# Altium footprint library DOCK_ESP32_v1.0.PcbLib: 35 footprints (part 1 of 3)
Each footprint in its own frame and in the unit in brackets; x right, y up, seen from the top. Pads: shape width x height; smd on the part's side, far side on the other; paste and mask are expansions set on the pad; w line width, h text height; cw(c..) or ccw(c..) is an arc to the next point about the centre after c.
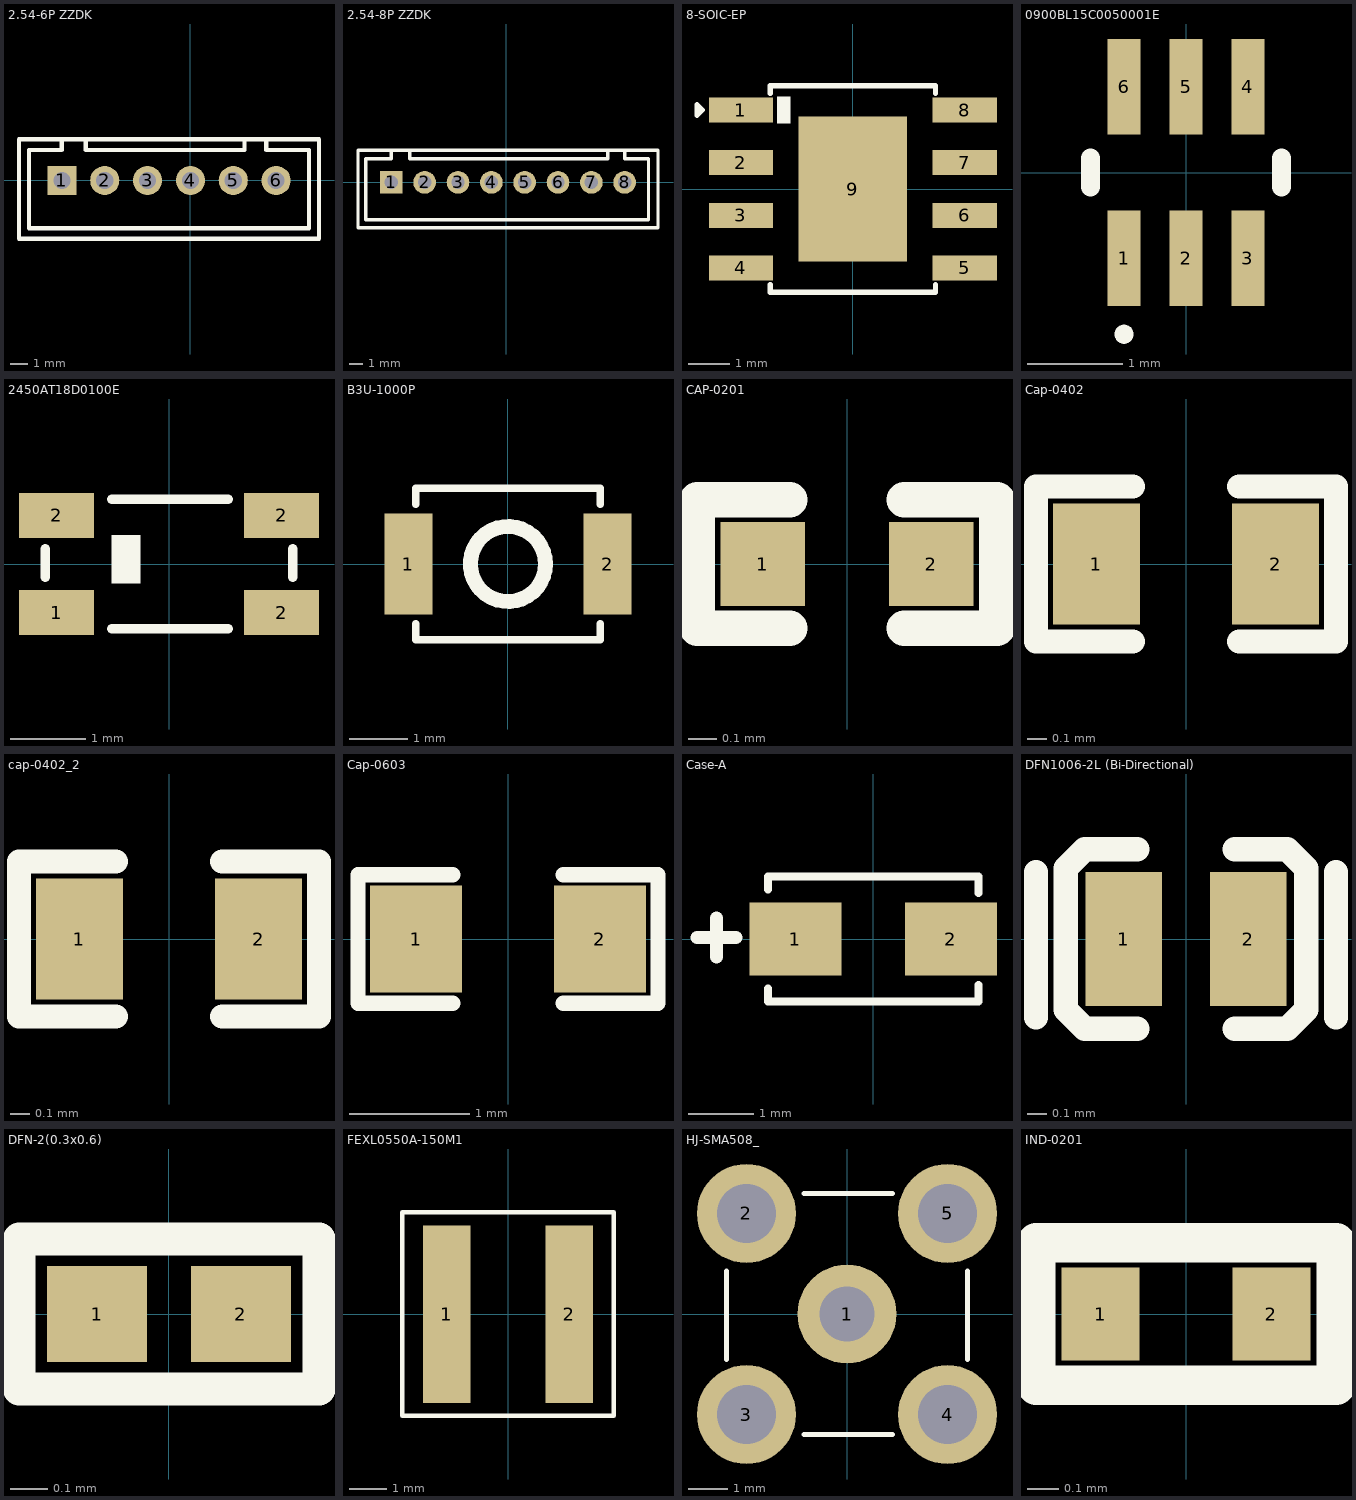
[diagram p0: the footprints below, top view; thin cyan lines are the x and y axes]

## 2.54-6P ZZDK [mm]
pads (6):
  rect 1.7x1.7 hole 1: 1(-7.5,0)
  round 1.7 hole 1: 2(-5,0) 3(-2.5,0) 4(0,0) 5(2.5,0) 6(5,0)
Top Overlay:
  lines w0.254: -7.513,2.371 -7.513,1.778 -9.418,1.778 -9.418,-2.794 6.918,-2.794 6.918,1.778 4.425,1.778 4.425,2.286 ; -6.116,2.354 -6.116,1.778 3.155,1.778 3.155,2.391 ; -10,-3.4 -10,2.4 7.5,2.4 7.5,-3.4 -10,-3.4
3D body "3D_PCB1_2026-05-26.step": height 7.1, standoff -3.4, extent -10.025,-3.527 7.485,2.823

## 2.54-8P ZZDK [mm]
pads (8):
  rect 1.7x1.7 hole 1: 1(-8.636,0)
  round 1.7 hole 1: 2(-6.136,0) 3(-3.636,0) 4(-1.136,0) 5(1.364,0) 6(3.864,0) 7(6.364,0) 8(8.864,0)
Top Overlay:
  lines w0.254: -8.649,2.371 -8.649,1.778 -10.554,1.778 -10.554,-2.794 10.655,-2.794 10.655,1.778 8.877,1.778 8.877,2.286 ; -7.252,2.354 -7.252,1.778 7.607,1.778 7.607,2.391 ; -11.136,-3.4 11.364,-3.4 11.364,2.4 -11.136,2.4 -11.136,-3.4
3D body "3D_PCB1_2026-05-21.step": height 7.1, standoff -3.4, extent -11.146,-3.404 11.364,2.946

## 8-SOIC-EP [mm]
height 8.77
pads (9):
  rect 1.55x0.6 smd: 1(-2.7,1.905) 2(-2.7,0.635) 3(-2.7,-0.635) 4(-2.7,-1.905) 5(2.7,-1.905) 6(2.7,-0.635) 7(2.7,0.635) 8(2.7,1.905)
  rect 2.613x3.502 smd: 9(0,0)
Top Overlay:
  rectangle: -1.829,1.575 -1.499,2.235
  lines w0.127: -1.991,-2.311 -1.991,-2.489 1.991,-2.489 1.991,-2.311 ; -1.991,2.311 -1.991,2.489 1.991,2.489 1.991,2.311 ; -3.759,1.778 -3.632,1.905 -3.759,2.032 -3.759,1.778
3D body "User Library-SOIC-8-1.STEP": height 1.7, standoff -0.05, extent -3,-2.45 3,2.45

## 0900BL15C0050001E [mm]
height 8.77
pads (6):
  rect 0.35x1 smd: 1(-0.65,-0.9) 2(0,-0.9) 3(0.65,-0.9) 4(0.65,0.9) 5(0,0.9) 6(-0.65,0.9)
Top Overlay:
  lines w0.1: -0.65,-1.746 ccw(c-0.65,-1.696) -0.65,-1.646 ccw(c-0.65,-1.696) -0.65,-1.746
  lines w0.2: -1,-0.15 -1,0.15 ; 1,-0.15 1,0.15
3D body "0900BL15C0050001E.stp": height 0.9, standoff 0, extent -1,-1.365 1,1.365

## 2450AT18D0100E [mm]
height 8.77
pads (4):
  rect 1x0.6 smd paste+0 mask+0.051: 1(-1.5,-0.65) 2(-1.5,0.65) 2(1.5,-0.65) 2(1.5,0.65)
Top Overlay:
  region: -0.762,0.381 -0.762,-0.254 -0.381,-0.254 -0.381,0.381
  lines w0.127: -1.651,-0.178 -1.651,0.203 ; -0.762,-0.864 0.787,-0.864 ; -0.762,0.864 0.787,0.864 ; 1.651,-0.178 1.651,0.203
3D body "C2917718.step": height 1.22, standoff 0, extent -1.6,-0.81 1.6,0.81

## B3U-1000P [mm] "SWITCH TACTILE SPST-NO 0.05A 12V"
height 8.77
pads (2):
  rect 0.82x1.72 smd: 1(-1.7,0) 2(1.7,0)
Top Overlay:
  circle w0.254: c0,0 r0.641
  lines w0.127: -1.575,-1.016 -1.575,-1.295 1.575,-1.295 1.575,-1.016 ; -1.575,1.016 -1.575,1.295 1.575,1.295 1.575,1.016
3D body "User Library-OMRON B3U1000P.step": height 1.6, standoff 0, extent -2,-1.263 2,1.237

## CAP-0201 [mm]
height 8.77
pads (2):
  rect 0.3x0.3 smd mask+0.055: 1(-0.3,0) 2(0.3,0)
Top Overlay:
  lines w0.127: -0.203,-0.229 -0.533,-0.229 -0.533,0.229 -0.203,0.229 ; 0.203,-0.229 0.533,-0.229 0.533,0.229 0.203,0.229
3D body "User Library-SMD Ceramic Capacitors_0201 (0603)_AB.STEP": height 0.28, standoff -0.02, extent -0.3,-0.15 0.301,0.15

## Cap-0402 [mil]
height 345.28
pads (2):
  rect 18x25 smd mask+2.36: 1(-18.5,0) 2(18.5,0)
Top Overlay:
  lines w5: -11,-16 -31,-16 -31,16 -11,16 ; 11,-16 31,-16 31,16 11,16
3D body "User Library-Capacitor 0402.step": height 18.5, standoff -1.18, extent -19.68,-9.84 19.7,9.85

## cap-0402_2 [mil]
pads (2):
  rect 18x25 smd mask+2.36: 1(-18.5,0) 2(18.5,0)
Top Overlay:
  lines w5: -11,-16 -31,-16 -31,16 -11,16 ; 11,-16 31,-16 31,16 11,16
3D body "User Library-Capacitor 0402.step": height 18.5, standoff -1.18, extent -19.68,-9.84 19.7,9.85

## Cap-0603 [mil]
height 345.28
pads (2):
  rect 30x35 smd mask+2.36: 1(-30,0) 2(30,0)
Top Overlay:
  lines w5: -18,-21 -49,-21 -49,21 -18,21 ; 18,-21 49,-21 49,21 18,21
3D body "User Library-CAPC1608X09.step": height 34.25, standoff -1.18, extent -31.51,-15.75 31.49,15.74

## Case-A [mm]
height 8.77
pads (2):
  rect 1.42x1.13 smd: 1(-1.2,0) 2(1.2,0)
Top Overlay:
  lines w0.127: -1.626,-0.762 -1.626,-0.965 1.626,-0.965 1.626,-0.711 ; -1.626,0.762 -1.626,0.965 1.626,0.965 1.626,0.711
  lines w0.2: -2.719,0.025 -2.119,0.025 ; -2.419,-0.275 -2.419,0.325
3D body "Cap_Kemet_T491A475M016AT_eec.STEP": height 1.8, standoff 0, extent -1.6,-0.9 1.6,0.9

## DFN1006-2L (Bi-Directional) [mm]
height 8.77
pads (2):
  rect 0.4x0.7 smd paste+0 mask+0.051: 1(-0.325,0) 2(0.325,0)
Top Overlay:
  lines w0.127: -0.783,-0.41 -0.783,0.35 ; -0.254,-0.469 -0.528,-0.469 -0.628,-0.369 -0.628,0.369 -0.528,0.469 -0.498,0.469 -0.254,0.469 ; 0.254,-0.469 0.528,-0.469 0.628,-0.369 0.628,0.369 0.528,0.469 0.498,0.469 0.254,0.469 ; 0.783,-0.41 0.783,0.35
3D body "SOD882.step": height 0.47, standoff 0, extent -0.5,-0.295 0.5,0.305

## DFN-2(0.3x0.6) [mm]
height 8.77
pads (2):
  rect 0.27x0.26 smd mask+0.05: 1(-0.195,0) 2(0.195,0)
Top Overlay:
  lines w0.089: -0.406,-0.203 -0.406,0.203 0.406,0.203 0.406,-0.203 -0.406,-0.203
3D body "ESDM2032MX4T5G.STEP": height 0.3, standoff 0, extent -0.3,-0.15 0.3,0.15

## FEXL0550A-150M1 [mm]
height 8.77
pads (2):
  rect 1.25x4.7 smd: 1(-1.625,0) 2(1.625,0)
Top Overlay:
  lines w0.127: -2.802,-2.692 -2.802,2.699 2.802,2.699 2.802,-2.692 -2.794,-2.692
3D body "3D_PCB1_2026-04-19.step": height 5.1, standoff 0, extent -2.648,-2.74 2.642,2.74

## HJ-SMA508_ [mm]
height 8.77
pads (5):
  round 2.5 hole 1.4: 1(0,0)
  round 2.5 hole 1.5: 2(-2.54,2.54) 3(-2.54,-2.54) 4(2.54,-2.54) 5(2.54,2.54)
Top Overlay:
  lines w0.127: -3.048,-1.143 -3.048,1.092 ; -1.092,-3.048 1.143,-3.048 ; -1.092,3.048 1.143,3.048 ; 3.048,-1.143 3.048,1.092
3D body "2012241211_HJ-Tech-HJ-SMA508_C1509209.STEP": height 9.6, standoff -2.9, extent -3,-2.949 3,11.051

## IND-0201 [mm]
height 8.77
pads (2):
  rect 0.25x0.3 smd mask+0.055: 1(-0.275,0) 2(0.275,0)
Top Overlay:
  lines w0.127: -0.483,-0.229 0.483,-0.229 0.483,0.229 -0.483,0.229 -0.483,-0.229
3D body "742692005.stp": height 0.15, standoff -0.15, extent -0.3,-0.15 0.3,0.15